# Altium integrated library 61300611121.IntLib: 1 symbol
Pins are listed as number, name and electrical type; pins without a type are passive.

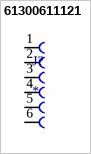
[diagram p0: symbol 61300611121]

## 61300611121
designator J?
Connector Header Through Hole 6 position 0.100 (2.54mm); MF: WÃ¼rth Elektronik; MP: 61300611121; Price: None; Value: *; Purchase-URL: https://pricing.snapeda.com/search/part/61300611121/?ref=eda; Check_prices: https://www.snapeda.com/parts/61300611121/Wurth+Elektronik/view-part/?ref=eda; Package: None; Availability: In Stock; SnapEDA_Link: https://www.snapeda.com/parts/61300611121/Wurth+Elektronik/view-part/?ref=snap
footprint 61300611121
pins: 1, 2, 3, 4, 5, 6